# Altium schematic symbol library Schlib1.SchLib: 2 symbols
Pins are listed as number, name and electrical type; pins without a type are passive.

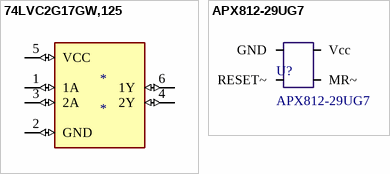
[diagram p0: symbols 74LVC2G17GW,125 to APX812-29UG7]

## 74LVC2G17GW,125
designator *
footprint SOT363_INFINEON
pins: 1 1A (io), 2 GND (io), 3 2A (io), 4 2Y (io), 5 VCC (io), 6 1Y (io)

## APX812-29UG7
designator U?
4-Pin Microprocessor Supervisor With Manual Reset. SOT143.
footprint APX812-29UG7 (SOT143, 4-Leads, Body 2.90x2.38mm, Pitch 1.90mm, IPC Medium Density)
pins: 0 Vcc, 2 RESET~, 3 MR~, GND